# Altium schematic symbol library TS5A3159ADBVR.SchLib: 1 symbol
Pins are listed as number, name and electrical type; pins without a type are passive.

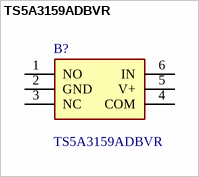
[diagram p0: symbol TS5A3159ADBVR]

## TS5A3159ADBVR
designator B?
1 Ohm SPDT Analog Switch 5-V/3.3-V Single Channel 2:1 Multiplexer/Demultiplexer; Manufacturer_Name: Texas Instruments; Geometry.Height: 1.45mm; Farnell Part Number: *; Farnell Price/Stock: *; Manufacturer_Part_Number: TS5A3159ADBVR; Datasheet Link: http://www.ti.com/lit/gpn/ts5a3159a
footprint SOT95P280X145-6N
pins: 1 NO, 2 GND, 3 NC, 4 COM, 5 V+, 6 IN